# EAGLE library part IP4786CZ32S (library IP4786CZ32S)
NXP - IP4786CZ32S - DIODE, ESD, HDMI TX INTERFACE, SOT1318 Source: Datasheet <http://www.farnell.com/datasheets/1927812.pdf>
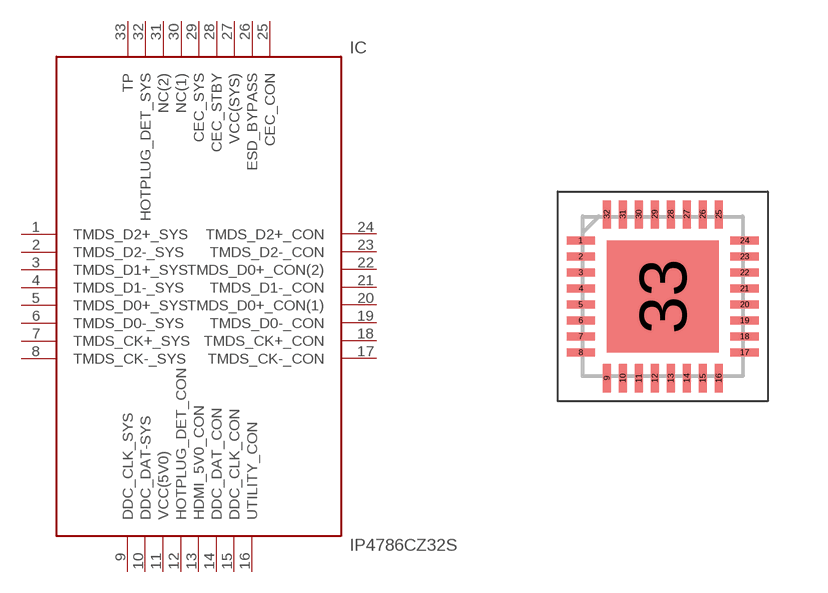
[diagram p0: symbol with the pads of QFN40P400X400X50-33N; footprint QFN40P400X400X50-33N]

Designator prefix IC

## IP4786CZ32S (Description: NXP - IP4786CZ32S - DIODE, ESD, HDMI TX INTERFACE, SOT1318; Height: 0.5mm; Manufacturer_Name: NXP; Manufacturer_Part_Number: IP4786CZ32S; Supplier_Name: RS)  [QFN40P400X400X50-33N]
1  TMDS_D2+_SYS  pas
2  TMDS_D2-_SYS  pas
3  TMDS_D1+_SYS  pas
4  TMDS_D1-_SYS  pas
5  TMDS_D0+_SYS  pas
6  TMDS_D0-_SYS  pas
7  TMDS_CK+_SYS  pas
8  TMDS_CK-_SYS  pas
9  DDC_CLK_SYS  in
10  DDC_DAT-SYS  pas
11  VCC(5V0)  pwr
12  HOTPLUG_DET_CON  pas
13  HDMI_5V0_CON  pas
14  DDC_DAT_CON  pas
15  DDC_CLK_CON  in
16  UTILITY_CON  pas
17  TMDS_CK-_CON  pas
18  TMDS_CK+_CON  pas
19  TMDS_D0-_CON  pas
20  TMDS_D0+_CON(1)  pas
21  TMDS_D1-_CON  pas
22  TMDS_D0+_CON(2)  pas
23  TMDS_D2-_CON  pas
24  TMDS_D2+_CON  pas
25  CEC_CON  pas
26  ESD_BYPASS  pas
27  VCC(SYS)  pwr
28  CEC_STBY  pas
29  CEC_SYS  pas
30  NC(1)  pas
31  NC(2)  pas
32  HOTPLUG_DET_SYS  pas
33  TP  pas

## Footprint QFN40P400X400X50-33N (pad centres in mm)
HXQFN32
smd 0.7 x 0.2: 1 -2.05,1.4; 2 -2.05,1; 3 -2.05,0.6; 4 -2.05,0.2; 5 -2.05,-0.2; 6 -2.05,-0.6; 7 -2.05,-1; 8 -2.05,-1.4; 17 2.05,-1.4; 18 2.05,-1; 19 2.05,-0.6; 20 2.05,-0.2; 21 2.05,0.2; 22 2.05,0.6; 23 2.05,1; 24 2.05,1.4
smd 0.2 x 0.7: 9 -1.4,-2.05; 10 -1,-2.05; 11 -0.6,-2.05; 12 -0.2,-2.05; 13 0.2,-2.05; 14 0.6,-2.05; 15 1,-2.05; 16 1.4,-2.05; 25 1.4,2.05; 26 1,2.05; 27 0.6,2.05; 28 0.2,2.05; 29 -0.2,2.05; 30 -0.6,2.05; 31 -1,2.05; 32 -1.4,2.05
smd 2.8 x 2.8: 33 0,0